# EAGLE library part SN75ALS160 (library my1)
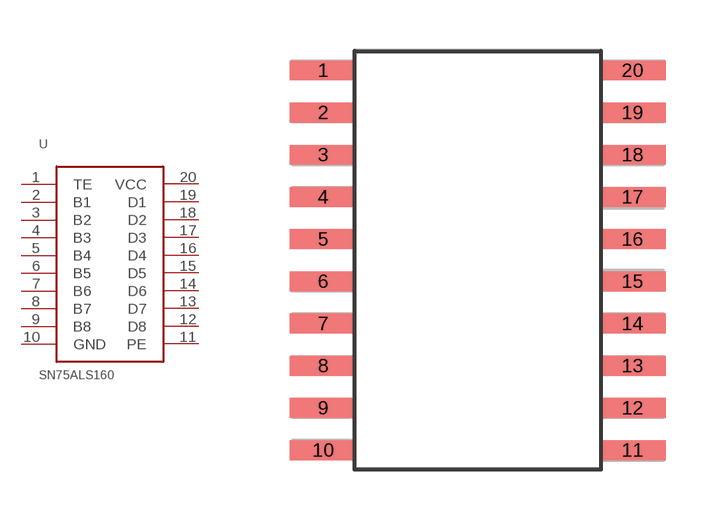
[diagram p0: symbol with the pads of DW0020A; footprint DW0020A]

Designator prefix -

## SN75ALS160SMD  [DW0020A]
1  TE
2  B1
3  B2
4  B3
5  B4
6  B5
7  B6
8  B7
9  B8
10  GND
11  PE
12  D8
13  D7
14  D6
15  D5
16  D4
17  D3
18  D2
19  D1
20  VCC

## Footprint DW0020A (pad centres in mm)
smd 2 x 0.6: 1 -4.65,5.08; 2 -4.65,3.81; 3 -4.65,2.54; 4 -4.65,1.27; 5 -4.65,0; 6 -4.65,-1.27; 7 -4.65,-2.54; 8 -4.65,-3.81; 9 -4.65,-5.08; 10 -4.65,-6.35; 11 4.65,-6.35; 12 4.65,-5.08; 13 4.65,-3.81; 14 4.65,-2.54; 15 4.65,-1.27; 16 4.65,0; 17 4.65,1.27; 18 4.65,2.54; 19 4.65,3.81; 20 4.65,5.08